# Altium schematic symbol library PIC16F722A.Schlib: 1 symbol
Pins are listed as number, name and electrical type; pins without a type are passive.

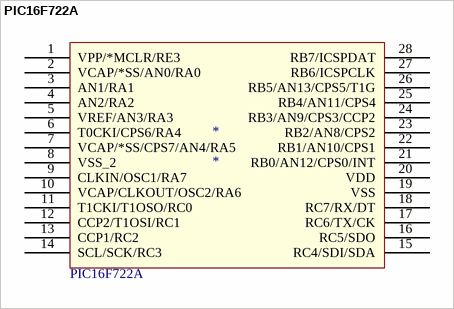
[diagram p0: symbol PIC16F722A]

## PIC16F722A
designator *
pins: 1 VPP/*MCLR/RE3, 2 VCAP/*SS/AN0/RA0, 3 AN1/RA1, 4 AN2/RA2, 5 VREF/AN3/RA3, 6 T0CKI/CPS6/RA4, 7 VCAP/*SS/CPS7/AN4/RA5, 8 VSS_2, 9 CLKIN/OSC1/RA7, 10 VCAP/CLKOUT/OSC2/RA6, 11 T1CKI/T1OSO/RC0, 12 CCP2/T1OSI/RC1, 13 CCP1/RC2, 14 SCL/SCK/RC3, 15 RC4/SDI/SDA, 16 RC5/SDO, 17 RC6/TX/CK, 18 RC7/RX/DT, 19 VSS, 20 VDD, 21 RB0/AN12/CPS0/INT, 22 RB1/AN10/CPS1, 23 RB2/AN8/CPS2, 24 RB3/AN9/CPS3/CCP2, 25 RB4/AN11/CPS4, 26 RB5/AN13/CPS5/T1G, 27 RB6/ICSPCLK, 28 RB7/ICSPDAT